# EAGLE library part TL16C754B (library lm5007)
QUAD UART WITH 64-BYTE FIFO Source: http://focus.ti.com/lit/ds/symlink/tl16c754b.pdf
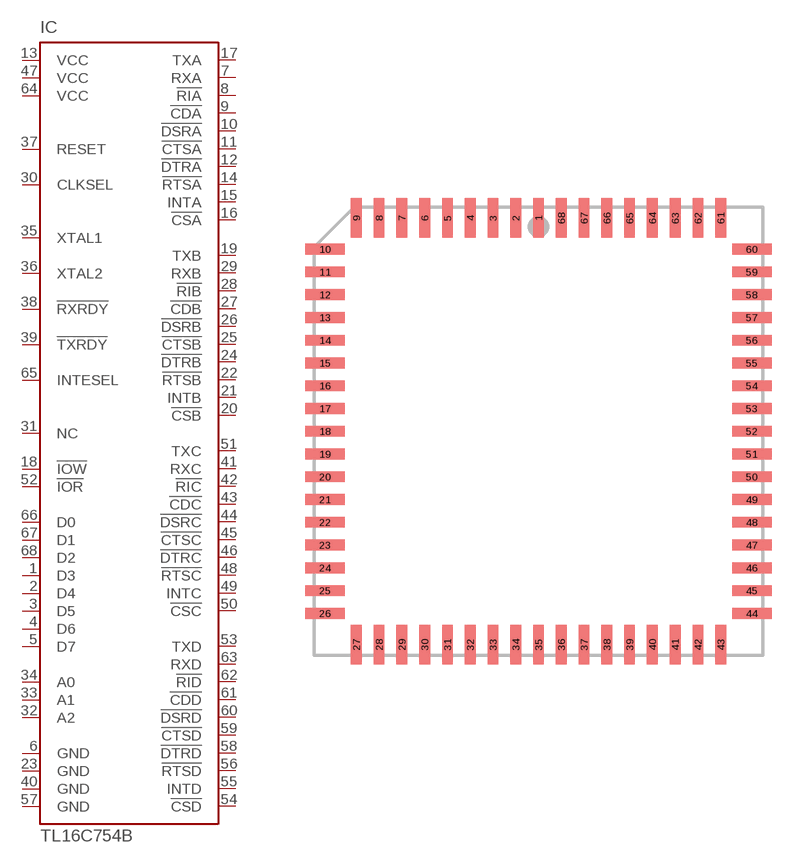
[diagram p33: symbol with the pads of PLCC68S; footprint PLCC68S]

Designator prefix IC

## TL16C754B (MPN: TL16C754BFN; OC_FARNELL: 1659627; OC_NEWARK: 12P7902)  [PLCC68S]
1  D3
2  D4
3  D5
4  D6
5  D7
6  GND
7  RXA
8  !RIA
9  !CDA
10  !DSRA
11  !CTSA
12  !DTRA
13  VCC
14  !RTSA
15  INTA
16  !CSA
17  TXA
18  !IOW
19  TXB
20  !CSB
21  INTB
22  !RTSB
23  GND
24  !DTRB
25  !CTSB
26  !DSRB
27  !CDB
28  !RIB
29  RXB
30  CLKSEL
31  NC
32  A2
33  A1
34  A0
35  XTAL1
36  XTAL2
37  RESET
38  !RXRDY
39  !TXRDY
40  GND
41  RXC
42  !RIC
43  !CDC
44  !DSRC
45  !CTSC
46  !DTRC
47  VCC
48  !RTSC
49  INTC
50  !CSC
51  TXC
52  !IOR
53  TXD
54  !CSD
55  INTD
56  !RTSD
57  GND
58  !DTRD
59  !CTSD
60  !DSRD
61  !CDD
62  !RID
63  RXD
64  VCC
65  INTESEL
66  D0
67  D1
68  D2

## Footprint PLCC68S (pad centres in mm)
PLASTIC LEADED CHIP CARRIER square
smd 0.6 x 2.2: 1 0,11.9; 2 -1.27,11.9; 3 -2.54,11.9; 4 -3.81,11.9; 5 -5.08,11.9; 6 -6.35,11.9; 7 -7.62,11.9; 8 -8.89,11.9; 9 -10.16,11.9; 27 -10.16,-11.9; 28 -8.89,-11.9; 29 -7.62,-11.9; 30 -6.35,-11.9; 31 -5.08,-11.9; 32 -3.81,-11.9; 33 -2.54,-11.9; 34 -1.27,-11.9; 35 0,-11.9; 36 1.27,-11.9; 37 2.54,-11.9; 38 3.81,-11.9; 39 5.08,-11.9; 40 6.35,-11.9; 41 7.62,-11.9; 42 8.89,-11.9; 43 10.16,-11.9; 61 10.16,11.9; 62 8.89,11.9; 63 7.62,11.9; 64 6.35,11.9; 65 5.08,11.9; 66 3.81,11.9; 67 2.54,11.9; 68 1.27,11.9
smd 2.2 x 0.6: 10 -11.9,10.16; 11 -11.9,8.89; 12 -11.9,7.62; 13 -11.9,6.35; 14 -11.9,5.08; 15 -11.9,3.81; 16 -11.9,2.54; 17 -11.9,1.27; 18 -11.9,0; 19 -11.9,-1.27; 20 -11.9,-2.54; 21 -11.9,-3.81; 22 -11.9,-5.08; 23 -11.9,-6.35; 24 -11.9,-7.62; 25 -11.9,-8.89; 26 -11.9,-10.16; 44 11.9,-10.16; 45 11.9,-8.89; 46 11.9,-7.62; 47 11.9,-6.35; 48 11.9,-5.08; 49 11.9,-3.81; 50 11.9,-2.54; 51 11.9,-1.27; 52 11.9,0; 53 11.9,1.27; 54 11.9,2.54; 55 11.9,3.81; 56 11.9,5.08; 57 11.9,6.35; 58 11.9,7.62; 59 11.9,8.89; 60 11.9,10.16